# Altium integrated library CapacitorsIntegrated.IntLib: 36 symbols
Pins are listed as number, name and electrical type; pins without a type are passive.

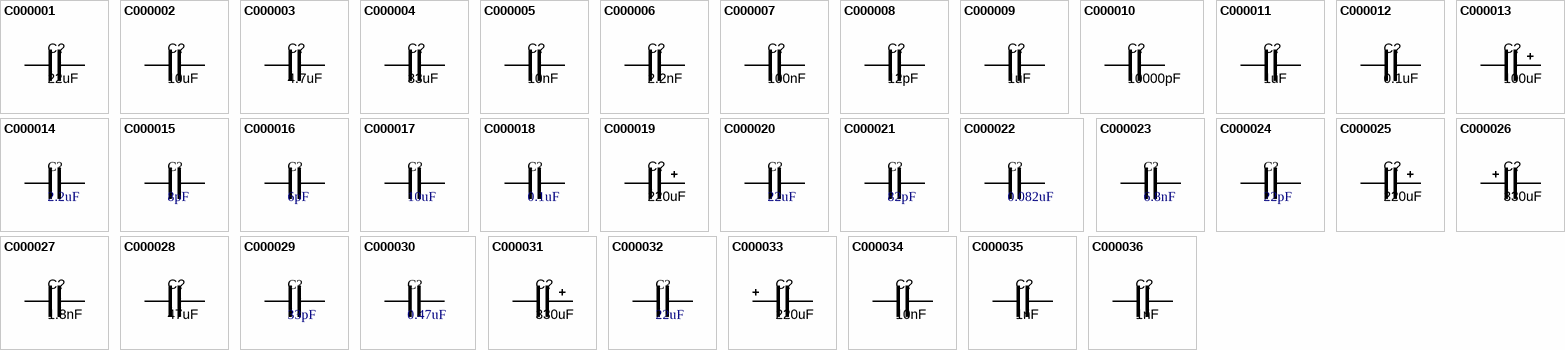
[diagram p0: symbols C000001 to C000036]

## C000001
designator C?, comment 22uF
22 µF ±20% 25V Ceramic Capacitor X5R 0805 (2012 Metric); Manufacturer Product Number: C2012X5R1E226M125AC; capacitance: 22uF; ComponentLink1Description: DigiKey; ComponentLink1URL: https://www.digikey.com/en/products/detail/tdk-corporation/C2012X5R1E226M125AC/3661564; DigiKey Part Number: 445-9112-1-ND; JLCPCB Part Number: C45783
footprint CAP_0805 (Chip Capacitor, 2-Leads, Body 2.00x1.25mm, IPC Medium Density)
pins: 1, 2

## C000002
designator C?, comment 10uF
10 µF ±10% 25V Ceramic Capacitor X5R 0805 (2012 Metric); Manufacturer Product Number: C2012X5R1E106K125AB; capacitance: 10uF; ComponentLink1Description: DigiKey; ComponentLink1URL: https://www.digikey.com/en/products/detail/tdk-corporation/C2012X5R1E106K125AB/2443462; DigiKey Part Number: 445-5984-1-ND; JLCPCB Part Number: C391262
footprint CAP_0805 (Chip Capacitor, 2-Leads, Body 2.00x1.25mm, IPC Medium Density)
pins: 1, 2

## C000003
designator C?, comment 4.7uF
4.7 µF ±10% 25V Ceramic Capacitor X5R 0805 (2012 Metric); Manufacturer Product Number: C0805C475K3PACTU; capacitance: 4.7uF; ComponentLink1Description: DigiKey; ComponentLink1URL: https://www.digikey.com/en/products/detail/kemet/C0805C475K3PAC7800/1950665; DigiKey Part Number: 399-C0805C475K3PACTUCT-ND; JLCPCB Part Number: C1779
footprint CAP_0805 (Chip Capacitor, 2-Leads, Body 2.00x1.25mm, IPC Medium Density)
pins: 1, 2

## C000004
designator C?, comment 33uF
33 µF ±20% 25V Ceramic Capacitor X5R 1206 (3216 Metric); Manufacturer Product Number: C3216X5R1E336M160AC; capacitance: 33uF; ComponentLink1Description: DigiKey; ComponentLink1URL: https://www.digikey.com/en/products/detail/tdk-corporation/C3216X5R1E336M160AC/2792259; DigiKey Part Number: 445-8046-1-ND; JLCPCB Part Number: C342307
footprint CAP_1206 (Chip Capacitor, 2-Leads, Body 3.20x1.60mm, IPC Medium Density)
pins: 1, 2

## C000005
designator C?, comment 10nF
10000 pF ±20% 25V Ceramic Capacitor X7R 0603 (1608 Metric); Manufacturer Product Number: KGM15AR71E103MT; capacitance: 10nF; ComponentLink1Description: DigiKey; ComponentLink1URL: https://www.digikey.com/en/products/detail/kyocera-avx/06033C103MAT2A/1599370; DigiKey Part Number: 478-KGM15AR71E103MTCT-ND; JLCPCB Part Number: C53084466
footprint CAP_0603 (Chip Capacitor, 2-Leads, Body 1.60x0.80mm, IPC Medium Density)
pins: 1, 2

## C000006
designator C?, comment 2.2nF
2200 pF ±10% 50V Ceramic Capacitor X7R 0603 (1608 Metric); Manufacturer Product Number: CC0603KRX7R9BB222; capacitance: 2.2nF; ComponentLink1Description: DigiKey; ComponentLink1URL: https://www.digikey.com/en/products/detail/yageo/CC0603KRX7R9BB222/302991; DigiKey Part Number: 311-1081-1-ND; JLCPCB Part Number: C107082
footprint CAP_0603 (Chip Capacitor, 2-Leads, Body 1.60x0.80mm, IPC Medium Density)
pins: 1, 2

## C000007
designator C?, comment 100nF
0.1 µF ±10% 25V Ceramic Capacitor X7R 0603 (1608 Metric); Manufacturer Product Number: KAM15AR71E104KT; capacitance: 100nF; ComponentLink1Description: DigiKey; ComponentLink1URL: https://www.digikey.com/en/products/detail/kyocera-avx/06033C104K4T2A/8019250; DigiKey Part Number: 478-KAM15AR71E104KTCT-ND; JLCPCB Part Number: C1590
footprint CAP_0603 (Chip Capacitor, 2-Leads, Body 1.60x0.80mm, IPC Medium Density)
pins: 1, 2

## C000008
designator C?, comment 12pF
12 pF ±5% 25V Ceramic Capacitor C0G, NP0 0603 (1608 Metric); Manufacturer Product Number: C0603C120J3GACAUTO; capacitance: 12pF; ComponentLink1Description: DigiKey; ComponentLink1URL: https://www.digikey.com/en/products/detail/kemet/C0603C120J3GACAUTO/11675595; DigiKey Part Number: 399-C0603C120J3GACAUTOCT-ND; JLCPCB Part Number: C107034
footprint CAP_0603 (Chip Capacitor, 2-Leads, Body 1.60x0.80mm, IPC Medium Density)
pins: 1, 2

## C000009
designator C?, comment 1uF
1 µF ±10% 16V Ceramic Capacitor X7R 0603 (1608 Metric); Manufacturer Product Number: CL10B105KO8NNNC; capacitance: 1uF; ComponentLink1Description: DigiKey; ComponentLink1URL: https://www.digikey.com/en/products/detail/samsung-electro-mechanics/CL10B105KO8NNNC/3886677; DigiKey Part Number: 1276-1019-2-ND; JLCPCB Part Number: C59782
footprint CAP_0603 (Chip Capacitor, 2-Leads, Body 1.60x0.80mm, IPC Medium Density)
pins: 1, 2

## C000010
designator C?, comment 10000pF
10000 pF ±10% 63V Ceramic Capacitor X7R 0603 (1608 Metric); Manufacturer Product Number: 060330630103KXT; capacitance: 10000pF; ComponentLink1Description: DigiKey; ComponentLink1URL: https://www.digikey.com/en/products/detail/knowles-syfer/060330630103KXT/6565244; DigiKey Part Number: 1608-1294-2-ND; JLCPCB Part Number: C84709
footprint CAP_0603 (Chip Capacitor, 2-Leads, Body 1.60x0.80mm, IPC Medium Density)
pins: 1, 2

## C000011
designator C?, comment 1uF
1 µF ±10% 10V Ceramic Capacitor X7R 0603 (1608 Metric); Manufacturer Product Number: CL10B105KP8NNNC; capacitance: 1uF; ComponentLink1Description: DigiKey; ComponentLink1URL: https://www.digikey.com/en/products/detail/samsung-electro-mechanics/CL10B105KP8NNNC/3887604; DigiKey Part Number: 1276-1946-2-ND
footprint CAP_0603 (Chip Capacitor, 2-Leads, Body 1.60x0.80mm, IPC Medium Density)
pins: 1, 2

## C000012
designator C?, comment 0.1uF
0.1 µF ±10% 10V Ceramic Capacitor X7R 0603 (1608 Metric); Manufacturer Product Number: C0603C104K8RACTU; capacitance: 0.1uF; ComponentLink1Description: DigiKey; ComponentLink1URL: https://www.digikey.com/en/products/detail/kemet/C0603C104K8RACTU/411094; DigiKey Part Number: 399-C0603C104K8RACTUCT-ND
footprint CAP_0603 (Chip Capacitor, 2-Leads, Body 1.60x0.80mm, IPC Medium Density)
pins: 1, 2

## C000013
designator C?, comment 100uF
100 µF 63 V Aluminum - Polymer Capacitors Radial, Can - SMD 28mOhm 2000 Hrs @ 105°C; Manufacturer Product Number: A767MU107M1JLAE028; capacitance: 100uF; ComponentLink1Description: DigiKey; ComponentLink1URL: https://www.digikey.com/en/products/detail/kemet/A767MU107M1JLAE028/7392906; DigiKey Part Number: 399-15648-2-ND
footprint CAPAE7366X60M (Aluminum Electrolytic Capacitor, Body 6.60x6.60x6.00mm, IPC Low Density)
pins: 1, 2

## C000014
designator C?, comment 2.2uF
8 pF ±0.05pF 25V Ceramic Capacitor C0G, NP0 01005 (0402 Metric); Manufacturer Product Number: GRM188C71C225KE11D; capacitance: 2.2uF; ComponentLink1Description: DigiKey; ComponentLink1URL: https://www.digikey.com/en/products/detail/murata-electronics/GRM188C71C225KE11D/4905311; DigiKey Part Number: 490-12731-1-ND
footprint CAP_0603 (Chip Capacitor, 2-Leads, Body 1.60x0.80mm, IPC Medium Density)
pins: 1, 2

## C000015
designator C?, comment 8pF
8 pF ±0.05pF 25V Ceramic Capacitor C0G, NP0 01005 (0402 Metric); Manufacturer Product Number: GRM0225C1E8R0WA03L; capacitance: 8pF; ComponentLink1Description: DigiKey; ComponentLink1URL: https://www.digikey.com/en/products/detail/murata-electronics/GRM0225C1E8R0WA03L/6048112?s=N4IgjCBcoMxaBjKAzAhgGwM4FMA0IB7KAbRAHYAGAVhAF18AHAFyhAGUmAnASwDsBzEAF98YACzwQSSGix5CJcFQCcAJjFk6jFpHZc%2BgkSFUUxyydNk58RSKQAcAAgYAxLSGasAqr25MA8sgAstiomACunNjC%2BAC0qhZQXOHytqQ0tEJGCXZSqAyoCH4EnHRCQA; DigiKey Part Number: 490-13716-2-ND
footprint CAP_0402 (Chip Capacitor, 2-Leads, Body 0.40x0.20mm, IPC Medium Density)
pins: 1, 2

## C000016
designator C?, comment 6pF
6 pF ±0.5pF 25V Ceramic Capacitor C0G, NP0 0402 (1005 Metric); Manufacturer Product Number: CBR04C609D3GAC; capacitance: 6pF; DigiKey Part Number: 399-CBR04C609D3GACCT-ND; ComponentLink1Description: DigiKey; ComponentLink1URL: https://www.digikey.com/en/products/detail/kemet/CBR04C609D3GAC/18137865?s=N4IgjCBcpgLFoDGUBmBDANgZwKYBoQB7KAbXAFYBOAJlgHYQBdAgBwBcoQBlNgJwEsAdgHMQAXwJgAbAhDJI6bPiKkQAZkphyADiasOkbnyGiJIagAZYlWfMW4CxSGSkACFgDE9IdpwCqgvxsAPIoALI4aFgArrw44gQAtNS2UHzRyk5k5ExieUA
footprint CAP_0402 (Chip Capacitor, 2-Leads, Body 0.40x0.20mm, IPC Medium Density)
pins: 1, 2

## C000017
designator C?, comment 10uF
10 µF ±10% 50V Ceramic Capacitor X7R 1206 (3216 Metric); Manufacturer Product Number: CL31B106KBHNNNE; capacitance: 10uF; ComponentLink1Description: DigiKey; ComponentLink1URL: https://www.digikey.com/en/products/detail/samsung-electro-mechanics/CL31B106KBHNNNE/5961251; DigiKey Part Number: 1276-6767-1-ND
footprint CAP_1206 (Chip Capacitor, 2-Leads, Body 3.20x1.60mm, IPC Medium Density)
pins: 1, 2

## C000018
designator C?, comment 0.1uF
0.1 µF ±10% 50V Ceramic Capacitor X7R 0603 (1608 Metric); Manufacturer Product Number: CL10B104KB8NNNC; capacitance: 0.1uF; ComponentLink1Description: DigiKey; ComponentLink1URL: https://www.digikey.com/en/products/detail/samsung-electro-mechanics/CL10B104KB8NNNC/3886658; DigiKey Part Number: 1276-1000-1-ND
footprint CAP_0603 (Chip Capacitor, 2-Leads, Body 1.60x0.80mm, IPC Medium Density)
pins: 1, 2

## C000019
designator C?, comment 220uF
220 µF 50 V Aluminum Electrolytic Capacitors Radial, Can - SMD 7000 Hrs @ 105°C; Manufacturer Product Number: UCW1H221MNL1GS; capacitance: 220uF; ComponentLink1Description: DigiKey; ComponentLink1URL: https://www.digikey.com/en/products/detail/nichicon/UCW1H221MNL1GS/2549783; DigiKey Part Number: 493-9426-1-ND
footprint CAPAE109103X103M (Aluminum Electrolytic Capacitor, Body 10.30x10.30x10.30mm, IPC Low Density)
pins: 1, 2

## C000020
designator C?, comment 22uF
22 µF ±10% 25V Ceramic Capacitor X5R 1206 (3216 Metric); Manufacturer Product Number: CL31A226KPHNNNE; capacitance: 22uF; ComponentLink1Description: DigiKey; ComponentLink1URL: https://www.digikey.com/en/products/detail/samsung-electro-mechanics/CL31A226KPHNNNE/3889373; DigiKey Part Number: 1276-1287-1-ND
footprint CAP_1206 (Chip Capacitor, 2-Leads, Body 3.20x1.60mm, IPC Medium Density)
pins: 1, 2

## C000021
designator C?, comment 82pF
82 pF ±1% 25V Ceramic Capacitor C0G, NP0 0603 (1608 Metric); Manufacturer Product Number: KGM15ACG1E820FT; capacitance: 82pF; ComponentLink1Description: DigiKey; ComponentLink1URL: https://www.digikey.com/en/products/detail/kyocera-avx/KGM15ACG1E820FT/1599315?s=N4IgjCBcoMxaBjKAzAhgGwM4FMA0IB7KAbXDBggF18AHAFyhAGU6AnASwDsBzEAX3xgALPBBJIaLHkIlwAVgCcAJiEB2ENRD1GLDj36CAbKPGSc%2BIpFIxlQ45u2RmbLrwEglABiEKTKDOYyViAAHEoABDQAYhq0DE4AqpzsdADyyACy2KiYAK6s2AYgALRKfpBsudKWpHIafA1AA; DigiKey Part Number: 478-KGM15ACG1E820FTCT-ND
footprint CAP_0603 (Chip Capacitor, 2-Leads, Body 1.60x0.80mm, IPC Medium Density)
pins: 1, 2

## C000022
designator C?, comment 0.082uF
0.082 µF ±10% 25V Ceramic Capacitor X7R 0603 (1608 Metric); Manufacturer Product Number: C0603C823K3RACTU; capacitance: 0.082uF; ComponentLink1Description: DigiKey; ComponentLink1URL: https://www.digikey.com/en/products/detail/kemet/C0603C823K3RAC7867/2201254; DigiKey Part Number: 399-C0603C823K3RAC7867CT-ND
footprint CAP_0603 (Chip Capacitor, 2-Leads, Body 1.60x0.80mm, IPC Medium Density)
pins: 1, 2

## C000023
designator C?, comment 6.8nF
6800 pF ±10% 25V Ceramic Capacitor X7R 0603 (1608 Metric); Manufacturer Product Number: CC0603KRX7R8BB682; capacitance: 6.8nF; ComponentLink1Description: DigiKey; ComponentLink1URL: https://www.digikey.com/en/products/detail/yageo/CC0603KRX7R8BB682/5883791; DigiKey Part Number: 311-4090-1-ND
footprint CAP_0603 (Chip Capacitor, 2-Leads, Body 1.60x0.80mm, IPC Medium Density)
pins: 1, 2

## C000024
designator C?, comment 22pF
22 pF ±10% 25V Ceramic Capacitor X7R 0603 (1608 Metric); Manufacturer Product Number: C0603C220K3RACAUTO; capacitance: 22pF; ComponentLink1Description: DigiKey; ComponentLink1URL: https://www.digikey.com/en/products/detail/kemet/C0603C220K3RACAUTO/16524857; DigiKey Part Number: 399-C0603C220K3RACAUTOCT-ND
footprint CAP_0603 (Chip Capacitor, 2-Leads, Body 1.60x0.80mm, IPC Medium Density)
pins: 1, 2

## C000025
designator C?, comment 220uF
220 µF 10 V Aluminum - Polymer Capacitors Radial, Can - SMD 20mOhm 2000 Hrs @ 105°C; Manufacturer Product Number: A765KN227M1ALAE020; capacitance: 220uF; ComponentLink1Description: DigiKey; ComponentLink1URL: https://www.digikey.com/en/products/detail/kemet/A765KN227M1ALAE020/6196558; DigiKey Part Number: 399-A765KN227M1ALAE020CT-ND
footprint CAPAE9083X100M (Aluminum Electrolytic Capacitor, Body 8.30x8.30x10.00mm, IPC Low Density)
pins: 1, 2

## C000026
designator C?, comment 330uF
330 µF 50 V Aluminum Electrolytic Capacitors Radial, Can - SMD 120mOhm @ 100kHz 2000 Hrs @ 105°C; Manufacturer Product Number: EMZR500ARA331MJA0G; capacitance: 330uF; ComponentLink1Description: DigiKey; ComponentLink1URL: https://www.digikey.com/en/products/detail/chemi-con/EMZR500ARA331MJA0G/5824768; DigiKey Part Number: 565-EMZR500ARA331MJA0GCT-ND
footprint CAPAE109103X103M (Aluminum Electrolytic Capacitor, Body 10.30x10.30x10.30mm, IPC Low Density)
pins: 1, 2

## C000027
designator C?, comment 1.8nF
1800 pF ±10% 25V Ceramic Capacitor X7R 0603 (1608 Metric); Manufacturer Product Number: C0603C182K3RACTU; capacitance: 1.8nF; ComponentLink1Description: DigiKey; ComponentLink1URL: https://www.digikey.com/en/products/detail/kemet/C0603C182K3RAC7867/2200107; DigiKey Part Number: 399-15370-1-ND
footprint CAP_0603 (Chip Capacitor, 2-Leads, Body 1.60x0.80mm, IPC Medium Density)
pins: 1, 2

## C000028
designator C?, comment 47uF
47 µF ±20% 25V Ceramic Capacitor X5R 1210 (3225 Metric); Manufacturer Product Number: MSAST32MAB5476MPNDT1; capacitance: 47uF; ComponentLink1Description: DigiKey; ComponentLink1URL: https://www.digikey.com/en/products/detail/taiyo-yuden/MSAST32MAB5476MPNDT1/16661322?s=N4IgTCBcDaILIGUCCCAqBmMckCECsALAOwBscACgHIAiqAjCALoC%2BQA; DigiKey Part Number: 587-MSAST32MAB5476MPNDT1CT-ND; Mouser Part Number: 963-MSAST32MAB5476MP; ComponentLink2Description: Mouser; ComponentLink2URL: https://eu.mouser.com/ProductDetail/TAIYO-YUDEN/MSAST32MAB5476MPNDT1?qs=tlsG%2FOw5FFjVcfO8xtWwSA%3D%3D
footprint CAP_1210 (Chip Capacitor, 2-Leads, Body 3.20x2.50mm, IPC Medium Density)
pins: 1, 2

## C000029
designator C?, comment 33pF
33 pF ±5% 25V Ceramic Capacitor C0G, NP0 0603 (1608 Metric); Manufacturer Product Number: CC0603JRNPO8BN330; capacitance: 33pF; ComponentLink1Description: DigiKey; ComponentLink1URL: https://www.digikey.com/en/products/detail/yageo/CC0603JRNPO8BN330/5883595; DigiKey Part Number: 311-3954-1-ND
footprint CAP_0603 (Chip Capacitor, 2-Leads, Body 1.60x0.80mm, IPC Medium Density)
pins: 1, 2

## C000030
designator C?, comment 0.47uF
0.47 µF ±10% 50V Ceramic Capacitor X7R 0805 (2012 Metric); Manufacturer Product Number: GRM21BR71H474KA88L; capacitance: 0.47uF; ComponentLink1Description: DigiKey; ComponentLink1URL: https://www.digikey.com/en/products/detail/murata-electronics/GRM21BR71H474KA88L/702592; DigiKey Part Number: 490-3328-1-ND
footprint CAP_0805 (Chip Capacitor, 2-Leads, Body 2.00x1.25mm, IPC Medium Density)
pins: 1, 2

## C000031
designator C?, comment 330uF
330 µF 35 V Aluminum Electrolytic Capacitors Radial, Can - SMD 90mOhm @ 100kHz 2000 Hrs @ 105°C; Manufacturer Product Number: NACZ331M35V10X10.5TR15F; capacitance: 330uF; ComponentLink1Description: DigiKey; ComponentLink1URL: https://www.digikey.com/en/products/detail/nic-components-corp/NACZ331M35V10X10-5TR15F/22237831?s=N4IgjCBcoGwJxVAYygMwIYBsDOBTANCAPZQDaIALAAxwDMdIAuoQA4AuUIAymwE4CWAOwDmIAL6EA7ACYKiECkgYcBYmRDS4cSfCasOkbnyGiJGqhQTQFaLHkIlI5WrSoACAK0AxPSHacAVUF%2BNgB5VABZXHRsAFdeXHFCaSpJK2RbFQd1AFZ3ADUQQloct0LmPwMQIJDwqJj4xLMAWml5RT5Y1UdyHKYxMzanBXQWdCQQol5%2BoA; DigiKey Part Number: 4988-NACZ331M35V10X10.5TR15FCT-ND
footprint CAPAE109103X103M (Aluminum Electrolytic Capacitor, Body 10.30x10.30x10.30mm, IPC Low Density)
pins: 1, 2

## C000032
designator C?, comment 22uF
22 µF ±10% 25V Ceramic Capacitor X7R 1210 (3225 Metric); Manufacturer Product Number: CL32B226KAJNNNE; capacitance: 22uF; DigiKey Part Number: 1276-3392-1-ND; ComponentLink1Description: DigiKey; ComponentLink1URL: https://www.digikey.com/en/products/detail/samsung-electro-mechanics/CL32B226KAJNNNE/3889050
footprint CAP_1210 (Chip Capacitor, 2-Leads, Body 3.20x2.50mm, IPC Medium Density)
pins: 1, 2

## C000033
designator C?, comment 220uF
220 µF 35 V Aluminum - Polymer Capacitors Radial, Can - SMD 23mOhm 1000 Hrs @ 150°C; Manufacturer Product Number: A785MN227M1VLAS023; capacitance: 220uF; ComponentLink1Description: DigiKey; ComponentLink1URL: https://www.digikey.com/en/products/detail/kemet/A785MN227M1VLAS023/22003773?s=N4IgTCBcDaIIIHYAcBWAsgOTGBaCMAagDJwDKADGAMwgC6AvkA; DigiKey Part Number: 399-A785MN227M1VLAS023CT-ND
footprint CAPAE109103X103M (Aluminum Electrolytic Capacitor, Body 10.30x10.30x10.30mm, IPC Low Density)
pins: 1, 2

## C000034
designator C?, comment 10nF
10000 pF ±10% 50V Ceramic Capacitor X7R 0603 (1608 Metric); Manufacturer Product Number: C0603C103K5RACTU; capacitance: 10nF; ComponentLink1Description: DigiKey; ComponentLink1URL: https://www.digikey.com/en/products/detail/kemet/C0603C103K5RACTU/411090; DigiKey Part Number: 399-C0603C103K5RACTUCT-ND
footprint CAP_0603 (Chip Capacitor, 2-Leads, Body 1.60x0.80mm, IPC Medium Density)
pins: 1, 2

## C000035
designator C?, comment 1nF
1000 pF ±10% 100V Ceramic Capacitor X7R 0805 (2012 Metric); Manufacturer Product Number: CC0805KRX7R0BB102; capacitance: 1nF; ComponentLink1Description: DigiKey; ComponentLink1URL: https://www.digikey.com/en/products/detail/yageo/CC0805KRX7R0BB102/2833637; DigiKey Part Number: 311-1472-1-ND
footprint CAP_0805 (Chip Capacitor, 2-Leads, Body 2.00x1.25mm, IPC Medium Density)
pins: 1, 2

## C000036
designator C?, comment 1nF
1000 pF ±10% 50V Ceramic Capacitor X7R 0603 (1608 Metric); Manufacturer Product Number: C0603C102K5RACTU; capacitance: 1nF; ComponentLink1Description: DigiKey; ComponentLink1URL: https://www.digikey.com/en/products/detail/kemet/C0603C102K5RACTU/411081; DigiKey Part Number: 399-C0603C102K5RACTUCT-ND; JLCPCB Part Number: C2167129
footprint CAP_0603 (Chip Capacitor, 2-Leads, Body 1.60x0.80mm, IPC Medium Density)
pins: 1, 2